# EAGLE library part RF,SWITCH,SPDT#1 (library QuantumOptics)
RF Switch, non-reflective, such as Hittite HMC284
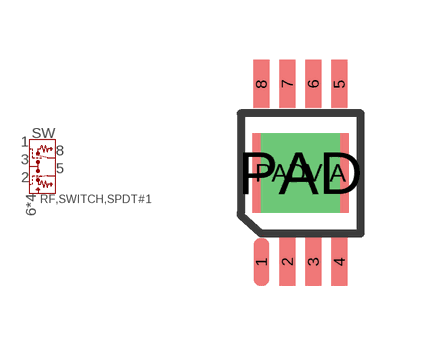
[diagram p175: symbol with the pads of MSOP8GND; footprint MSOP8GND]

Designator prefix SW

## RF,SWITCH,SPDT#1-MSOP8GND  [MSOP8GND]
1  A  in
2  B  in
3  RFC
5  RF1
6  COM
7  COM
8  RF2
PAD  COM
PADVIA  COM

## Footprint MSOP8GND (pad centres in mm)
MSOP-8 with exposed ground, e.g. Jedec MO-187-AA-T, Hittite HMC346 or Analog Devices Mini-SO-EP package.
smd 0.4 x 1.2: 1 -0.65,-2.223; 2 0,-2.223; 3 0.65,-2.223; 4 1.3,-2.223; 5 1.3,2.223; 6 0.65,2.223; 7 0,2.223; 8 -0.65,2.223
smd 2.413 x 1.981: PAD 0.325,0
drill 1.321 square: PADVIA 0.325,0